# Altium schematic symbol library xilinx-xc18v.SCHLIB: 3 symbols
Pins are listed as number, name and electrical type; pins without a type are passive.

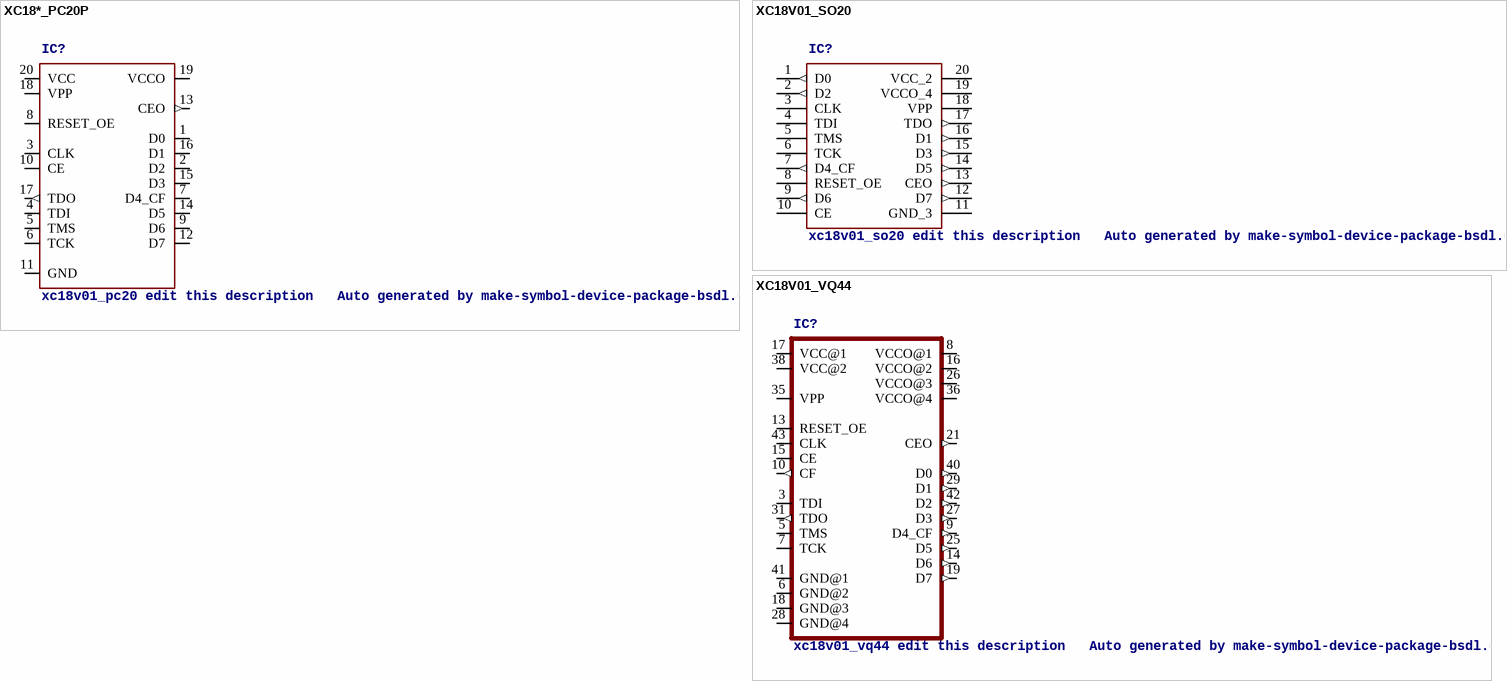
[diagram p0: symbols XC18*_PC20P to XC18V01_VQ44]

## XC18*_PC20P
designator IC?, comment xc18v01_pc20 edit this description   Auto generated by make-symbol-device-package-bsdl.ulp Rev. 26 Source: xc18v01_pc20.bsd
OC_FARNELL: unknown; OC_NEWARK: unknown
footprint PLCC20
pins: 1 D0, 2 D2, 3 CLK, 4 TDI, 5 TMS, 6 TCK, 7 D4_CF, 8 RESET_OE, 9 D6, 10 CE, 11 GND (power), 12 D7, 13 CEO (out), 14 D5, 15 D3, 16 D1, 17 TDO (out), 18 VPP, 19 VCCO (power), 20 VCC (power)

## XC18V01_SO20
designator IC?, comment xc18v01_so20 edit this description   Auto generated by make-symbol-device-package-bsdl.ulp Rev. 26 Source: xc18v01_so20.bsd
OC_FARNELL: unknown; OC_NEWARK: unknown
footprint SOP20
pins: 1 D0 (out), 2 D2 (out), 3 CLK, 4 TDI, 5 TMS, 6 TCK, 7 D4_CF (out), 8 RESET_OE, 9 D6 (out), 10 CE, 11 GND_3, 12 D7 (out), 13 CEO (out), 14 D5 (out), 15 D3 (out), 16 D1 (out), 17 TDO (out), 18 VPP, 19 VCCO_4, 20 VCC_2

## XC18V01_VQ44
designator IC?, comment xc18v01_vq44 edit this description   Auto generated by make-symbol-device-package-bsdl.ulp Rev. 26 Source: xc18v01_vq44.bsd
OC_FARNELL: unknown; OC_NEWARK: unknown
footprint SQFP-S-10X10-44
pins: 3 TDI, 5 TMS, 6 GND@2 (power), 7 TCK, 8 VCCO@1 (power), 9 D4_CF (out), 10 CF (out), 13 RESET_OE, 14 D6 (out), 15 CE, 16 VCCO@2 (power), 17 VCC@1 (power), 18 GND@3 (power), 19 D7 (out), 21 CEO (out), 25 D5 (out), 26 VCCO@3 (power), 27 D3 (out), 28 GND@4 (power), 29 D1 (out), 31 TDO (out), 35 VPP, 36 VCCO@4 (power), 38 VCC@2 (power), 40 D0 (out), 41 GND@1 (power), 42 D2 (out), 43 CLK